# EAGLE library part EXB-38V103JV (library Pana_Chip_RA)
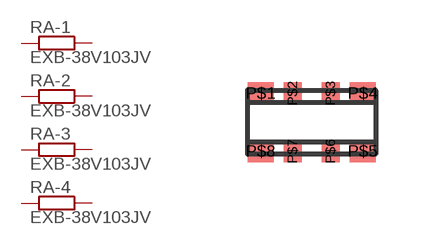
[diagram p0: symbol with the pads of EXB-38V,28V; footprint EXB-38V,28V]

Designator prefix RA; gates -1=R -2=R -3=R -4=R

## EXB-38V103JV  [EXB-38V,28V]
P$1  -1:1  pas
P$2  -2:1  pas
P$3  -3:1  pas
P$4  -4:1  pas
P$5  -4:2  pas
P$6  -3:2  pas
P$7  -2:2  pas
P$8  -1:2  pas

## Footprint EXB-38V,28V (pad centres in mm)
smd 0.65 x 0.55: P$1 -1.275,0.725; P$4 1.275,0.725; P$5 1.275,-0.725; P$8 -1.275,-0.725
smd 0.45 x 0.55: P$2 -0.475,0.725; P$3 0.475,0.725; P$6 0.475,-0.725; P$7 -0.475,-0.725